# EAGLE library part SVF-V1.1 (library XM8)
Xonik State variable filter v1.1
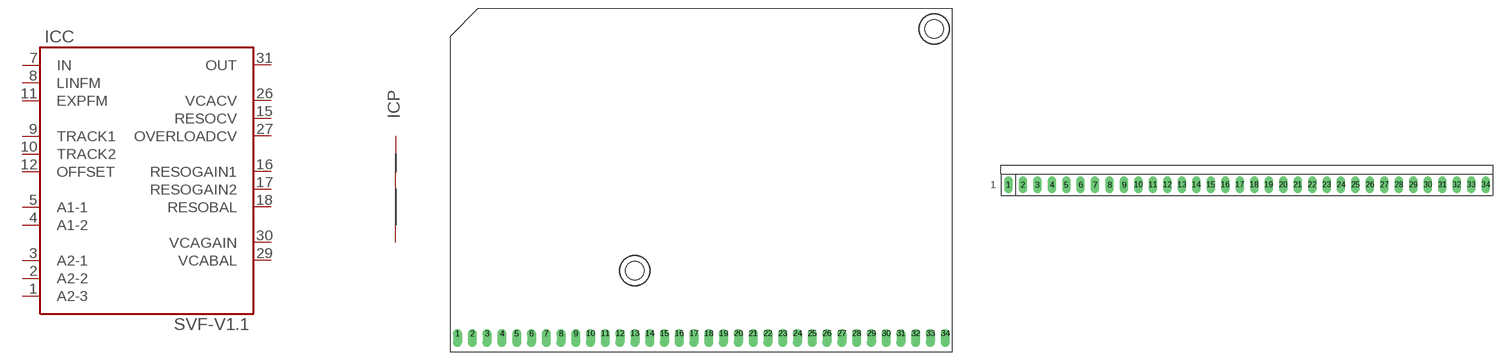
[diagram p11: symbol with the pads of XM8-SVF-V1.1H; footprints XM8-SVF-V1.1H, XM8-SVF-V1.1V]

Designator prefix IC; gates C=XM8-SVF-V1.1 P=XM8-PWR

## SVF-V1.1H  [XM8-SVF-V1.1H]
1  C:A2-3
2  C:A2-2
3  C:A2-1
4  C:A1-2
5  C:A1-1
7  C:IN
8  C:LINFM
9  C:TRACK1  in
10  C:TRACK2
11  C:EXPFM
12  C:OFFSET
15  C:RESOCV
16  C:RESOGAIN1
17  C:RESOGAIN2
18  C:RESOBAL
26  C:VCACV
27  C:OVERLOADCV
29  C:VCABAL
30  C:VCAGAIN
31  C:OUT
32  P:+V  pwr
33  P:AGND  pwr
34  P:-V  pwr

## SVF-V1.1V  [XM8-SVF-V1.1V]
Pads as for XM8-SVF-V1.1H

## Footprint XM8-SVF-V1.1H (pad centres in mm)
Xonik State variable filter v1.1, horizontal mount
drill 1.016 offset: 1 -41.91,0; 2 -39.37,0; 3 -36.83,0; 4 -34.29,0; 5 -31.75,0; 6 -29.21,0; 7 -26.67,0; 8 -24.13,0; 9 -21.59,0; 10 -19.05,0; 11 -16.51,0; 12 -13.97,0; 13 -11.43,0; 14 -8.89,0; 15 -6.35,0; 16 -3.81,0; 17 -1.27,0; 18 1.27,0; 19 3.81,0; 20 6.35,0; 21 8.89,0; 22 11.43,0; 23 13.97,0; 24 16.51,0; 25 19.05,0; 26 21.59,0; 27 24.13,0; 28 26.67,0; 29 29.21,0; 30 31.75,0; 31 34.29,0; 32 36.83,0; 33 39.37,0; 34 41.91,0
hole 3.2 at -11.43,10.795
hole 3.2 at 40.005,52.388

## Footprint XM8-SVF-V1.1V (pad centres in mm)
Xonik State variable filter v1.1, vertical mount
drill 1.016 long: 1 -41.91,0; 2 -39.37,0; 3 -36.83,0; 4 -34.29,0; 5 -31.75,0; 6 -29.21,0; 7 -26.67,0; 8 -24.13,0; 9 -21.59,0; 10 -19.05,0; 11 -16.51,0; 12 -13.97,0; 13 -11.43,0; 14 -8.89,0; 15 -6.35,0; 16 -3.81,0; 17 -1.27,0; 18 1.27,0; 19 3.81,0; 20 6.35,0; 21 8.89,0; 22 11.43,0; 23 13.97,0; 24 16.51,0; 25 19.05,0; 26 21.59,0; 27 24.13,0; 28 26.67,0; 29 29.21,0; 30 31.75,0; 31 34.29,0; 32 36.83,0; 33 39.37,0; 34 41.91,0